# Altium schematic symbol library INA226-Q1.SchLib: 1 symbol
Pins are listed as number, name and electrical type; pins without a type are passive.

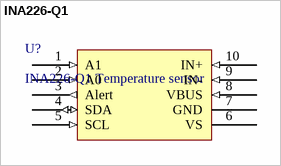
[diagram p0: symbol INA226-Q1]

## INA226-Q1
designator U?, comment INA226-Q1 Temperature sensor
Texas Instruments INA226-Q1 I2C temperature sensor; Reference: INA226-Q1; Manufacturer: Texas Instruments
footprint INA226-Q1 (Texas Instruments INA226-Q1 I2C temperature sensor)
pins: 1 A1 (in), 2 A0 (in), 3 Alert (out), 4 SDA (io), 5 SCL (in), 6 VS (power), 7 GND (power), 8 VBUS (in), 9 IN- (in), 10 IN+ (in)